# EAGLE library part SI1120 (library User-Submitted)
Silicon Labs Si1120 Proximity/Ambient Light Sensor The Si1120 is a high-sensitivity active infrared proximity and ambient light sensor IC, enabling innovative touchless human interface applications with ultra-low power advantages. Consisting of an infrared LED driver, an infrared photodiode, an ambient light sensor and control logic, the device is packaged in a 3 mm x 3 mm clear DFN. Datasheet <http://www.silabs.com/Support%20Documents/TechnicalDocs/Si1120.pdf> SparkFun Products No current assemblies
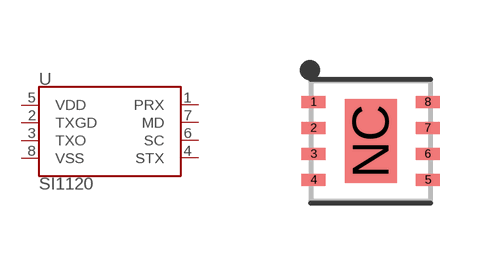
[diagram p12: symbol with the pads of ODFN-8; footprint ODFN-8]

Designator prefix -

## SI1120 (PROD_ID: IC-09981)  [ODFN-8]
1  PRX
2  TXGD
3  TXO
4  STX
5  VDD
6  SC
7  MD
8  VSS

## Footprint ODFN-8 (pad centres in mm)
8-Pin ODFN w/ Center Pad (3 x 3 mm) Datasheet <http://www.silabs.com/Support%20Documents/TechnicalDocs/Si1120.pdf> Specifications: Pin Count: 8 (+ center pad) Dimensions 3.0 x 3.0 x 0.65 mm Pitch: 0.65 mm Devices Using: SI1120
smd 0.6 x 0.3: 1 -1.43,0.975; 2 -1.43,0.325; 3 -1.43,-0.325; 4 -1.43,-0.975; 5 1.43,-0.975; 6 1.43,-0.325; 7 1.43,0.325; 8 1.43,0.975
smd 1.3 x 2.1: NC 0,0